# Altium footprint library jack_3.5_ST-214C.PcbLib: 1 footprints
Each footprint in its own frame and in the unit in brackets; x right, y up, seen from the top. Pads: shape width x height; smd on the part's side, far side on the other; paste and mask are expansions set on the pad; w line width, h text height; cw(c..) or ccw(c..) is an arc to the next point about the centre after c.
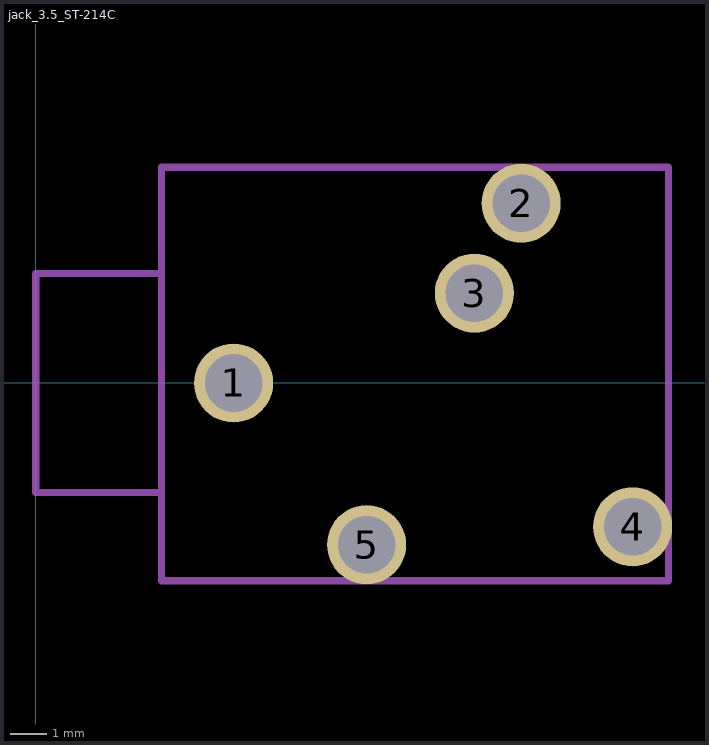
[diagram p0: the footprint, top view; thin cyan lines are the x and y axes]

## jack_3.5_ST-214C [mm]
pads (5):
  round 2.2 hole 1.6 paste-3: 1(5.5,0) 2(13.5,5) 3(12.2,2.5) 4(16.6,-4) 5(9.2,-4.5)
Mechanical 13:
  lines w0.2: 3.5,-3.048 0,-3.048 0,0 0,3.048 3.5,3.048 ; 3.5,-5.5 3.5,6 17.6,6 17.6,-5.5 3.5,-5.5
  text ".Designator" at 8.128,0.127 h1.5
3D body: height 6, standoff 0, extent 3.501,-5.499 17.599,5.999
3D body: height 5.99, standoff 0.01, extent 0,-2.991 3.5,2.986